# Altium schematic symbol library CRYSTAL.SchLib: 3 symbols
Pins are listed as number, name and electrical type; pins without a type are passive.

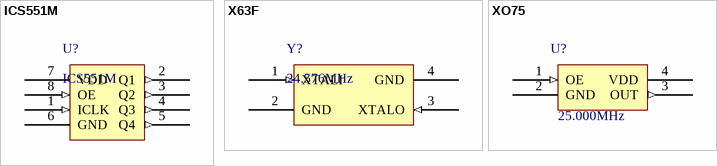
[diagram p0: symbols ICS551M to XO75]

## ICS551M
designator U?
footprint SO-G8 (Small Outline; 8 Leads; Body Width 3.9 mm; Pitch 1.27 mm)
pins: 1 ICLK (in), 2 Q1 (out), 3 Q2 (out), 4 Q3 (out), 5 Q4 (out), 6 GND (power), 7 VDD (power), 8 OE (in)

## X63F
designator Y?, comment 24.576MHz
footprint X63F
pins: 1 XTALI (in), 2 GND (power), 3 XTALO (in), 4 GND (power)

## XO75
designator U?, comment value 25.000MHz  (hidden comment: CRYSTAL)
footprint XO75 (CRYSTAL)
pins: 1 OE (in), 2 GND (power), 3 OUT (out), 4 VDD (power)